# Altium integrated library Op-Amps and Comparators.IntLib: 17 symbols
Pins are listed as number, name and electrical type; pins without a type are passive.

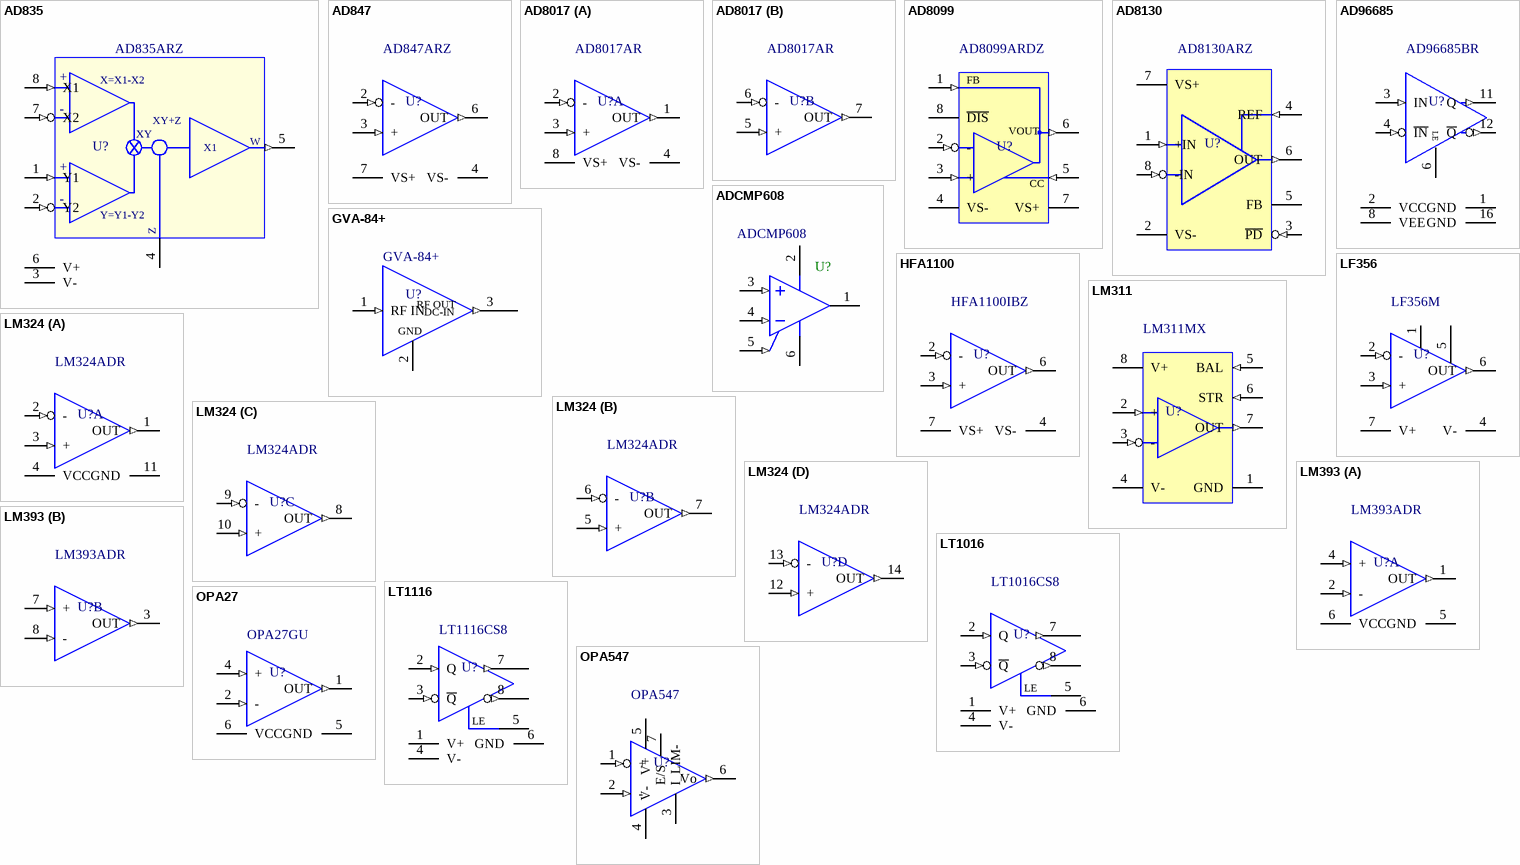
[diagram p0: symbols AD835 to OPA547]

## AD835
designator U?, comment AD835ARZ
Voltage Output Multiplier, 250MHz, 4 Quadrant; Manufacturer: Analog Devices Inc.; Current Output High: 75mA; Supply Voltage: +/- 6V; Output Type: Voltage; Current Output Low: *; PackageDescription: SOIC, 8-Leads, Body 4.9x3.9mm, Pitch 1.27mm, IPC Low Density; Input Type: Voltage; Type: Analog Multiplier; Supplier 1: Newark; Supplier Part Number 1: 68H9066; Supplier 2: Mouser; Supplier Part Number 2: 584-AD835ARZ; CMRR/PSRR: -; ComponentLink1Description: Datasheet; ComponentLink1URL: \\Canopus\EDA\Datasheets\Op-Amps and Comparitors\ADCMP608.pdf; Package Reference: SOIC-8; Supplier 3: TME; Supplier Part Number 3: AD835ARZ; Part Number: AD835ARZ
footprint SOIC-8 (SOIC, 8-Leads, Body 4.9x3.9mm, Pitch 1.27mm, IPC Low Density)
3D model SOIC-8 (PCB3D Model)
pins: 1 Y1 (in), 2 Y2 (in), 3 V- (power), 4 Z (power), 5 W (out), 6 V+ (power), 7 X2 (in), 8 X1 (in)
text: +; X=X1-X2; XY+Z; XY; Y=Y1-Y2

## AD847
designator U?, comment AD847ARZ
Operational Amplifier, Monolithic, Unity Gain at 50MHz; Manufacturer: Analog Devices; Current Output High: 32mA; Supply Voltage: +/- 4.5V to 18V; Output Type: -; Current Output Low: 32mA; PackageDescription: SOIC, 8-Leads, Body 4.9x3.9mm, Pitch 1.27mm, IPC Low Density; Supplier 1: Mouser; Supplier Part Number 1: 584-AD847ARZ; Input Type: -; Type: General Purpose Op-Amp; CMRR/PSRR: -; ComponentLink1Description: Datasheet; ComponentLink1URL: \\Canopus\EDA\Datasheets\Op-Amps and Comparitors\AD847.pdf; Package Reference: SOIC-8; Part Number: AD847ARZ
footprint SOIC-8 (SOIC, 8-Leads, Body 4.9x3.9mm, Pitch 1.27mm, IPC Low Density)
3D model SOIC-8 (PCB3D Model)
simulation model AD847A (AD847A SPICE Macro-model)
pins: 2 - (in), 3 + (in), 4 VS- (power), 6 OUT (out), 7 VS+ (power)

## AD8017
designator U?  Part Number: AD8017AR  (hidden comment: AD8017)
Op-amp, General Purpose, Dual, 1600v/uS slew rate,; Manufacturer: Analog Devices Inc.; Current Output High: 270mA; Current Output Low: 200mA; Supply Voltage: 4.4V - 12V (single), +/-2.2V - 6V (dual); Output Type: -; PackageDescription: SOIC, 8-Leads, Body 4.9x3.9mm, Pitch 1.27mm, IPC Low Density; Input Type: -; Type: -; CMRR/PSRR: -; ComponentLink1Description: Datasheet; ComponentLink1URL: \\Canopus\EDA\Datasheets\Op-Amps and Comparitors\AD8017.pdf; Supplier 1: Newark; Supplier Part Number 1: 82H2945; Supplier 2: Mouser; Supplier Part Number 2: 584-AD8017ARZ; Package Reference: SOIC-8
3D model SOIC-8 (PCB3D Model)
footprint SOIC-8 (SOIC, 8-Leads, Body 4.9x3.9mm, Pitch 1.27mm, IPC Low Density)
simulation model AD8017 (AD8017 Spice Macro-model)
part A pins: 1 OUT (out), 2 - (in), 3 + (in), 4 VS- (power), 8 VS+ (power)
part B pins: 5 + (in), 6 - (in), 7 OUT (out)

## AD8099
designator U?, comment AD8099ARDZ
Operational Amplifier, Voltage Feedback, 510MHz; Manufacturer: Analog Devices Inc.; Current Output High: 178mA; Current Output Low: 131mA; Supply Voltage: 5V - 12V (single), +/-2.5V - 6V (dual); CMRR/PSRR: 102dB CMRR, 95dB PSRR; Output Type: -; Supplier 1: Mouser; Supplier Part Number 1: 584-AD8099ACPZ-R7; Input Type: -; Type: Low Noise Op Amp; ComponentLink1Description: Datasheet; ComponentLink1URL: \\Canopus\EDA\Datasheets\Op-Amps and Comparitors\AD8099.pdf; PackageDescription: SOIC, 8-Leads, Body 4.9x3.9mm, Pitch 1.27mm, IPC Low Density; Package Reference: SOIC-8; Part Number: AD8099ARDZ
footprint SOIC-8 (SOIC, 8-Leads, Body 4.9x3.9mm, Pitch 1.27mm, IPC Low Density)
3D model SOIC-8 (PCB3D Model)
simulation model AD8099 (AD8099 Simulation model)
pins: 1 FB (in), 2 - (in), 3 + (in), 4 VS- (power), 5 CC (in), 6 VOUT (out), 7 VS+ (power), 8 ~{DIS} (power)

## AD8130
designator U?, comment AD8130ARZ
Differential Receiver Amplifier, 270MHz; Manufacturer: Analog Devices Inc.; Output Type: Single Ended; Current Output High: 40mA; Supply Voltage: 4.5V - 25.2V (single), +/-2.25V - 12.6V (dual); CMRR/PSRR: 80dB @ 1Vp-p; Current Output Low: 40mA; PackageDescription: SOIC, 8-Leads, Body 4.9x3.9mm, Pitch 1.27mm, IPC Low Density; Supplier 1: TME; Supplier Part Number 1: AD8130ARZ; Supplier 2: Mouser; Supplier Part Number 2: 584-AD8130ARZ; Input Type: Differential; Type: Differential; ComponentLink1Description: Datasheet; ComponentLink1URL: \\Canopus\EDA\Datasheets\Op-Amps and Comparitors\AD8129_8130.pdf; Package Reference: SOIC-8; Part Number: AD8130ARZ
footprint SOIC-8 (SOIC, 8-Leads, Body 4.9x3.9mm, Pitch 1.27mm, IPC Low Density)
3D model SOIC-8 (PCB3D Model)
simulation model AD8130 (AD8130  SPICE Macro-model)
pins: 1 +IN (in), 2 VS- (power), 3 ~{PD} (in), 4 REF (in), 5 FB, 6 OUT (out), 7 VS+ (power), 8 -IN (in)

## AD96685
designator U?, comment Part Number: AD96685BR  (hidden comment: AD96685BRZ)
Ultrafast Comparator, Single, ECL compatable output; Manufacturer: Analog Devices; Output Type: Complimetary, Open-Emitter, ECL; Current Output High: 36mA; Current Output Low: 18mA; Supply Voltage: +5V, -5.2V; CMRR/PSRR: 90dB CMRR, 70dB PSRR; PackageDescription: SOIC, 16-Leads, Body 9.9x3.9mm, Pitch 1.27mm, IPC Low Density; Supplier 1: Mouser; Supplier Part Number 1: 584-AD96685BRZ; Input Type: -; Type: Comparitor; ComponentLink1Description: Datasheet; ComponentLink1URL: \\Canopus\EDA\Datasheets\Op-Amps and Comparitors\AD96685_96687.pdf; Package Reference: SOIC-16
footprint SOIC-16 (SOIC, 16-Leads, Body 9.9x3.9mm, Pitch 1.27mm, IPC Low Density)
3D model SOIC-16 (PCB3D Model)
pins: 1 GND (power), 2 VCC (power), 3 IN (in), 4 ~{IN} (in), 6 LE, 8 VEE (power), 11 Q (out), 12 ~{Q} (out), 16 GND (power)

## ADCMP608
designator U?
TTL/CMOS Rail to Rail High Speed Comparator, SC70-6 package; Manufacturer: Analog Devices; CMRR/PSRR: 45dB CMRR, 50dB PSRR; Output Type: TTL/CMOS/Rail to Rail; ComponentLink1URL: \\Canopus\EDA\Datasheets\Op-Amps and Comparitors\ADCMP608.pdf; ComponentLink1Description: Datasheet; Supplier 1: Newark; Supplier Part Number 1: 29X6625; Supplier 2: Mouser; Supplier Part Number 2: 584-ADCMP608BKSZR7; PackageDescription: SOT363, S06/TSSOT-06 Package, 6-Leads, Body 2.00x2.10mm, Pitch 0.65mm, IPC Medium Density; Package Reference: SOT-363; Type: General Purpose; Part Number: ADCMP608
3D model SOT-363 (PCB3D Model)
footprint SOT363 (SOT363, S06/TSSOT-06 Package, 6-Leads, Body 2.00x2.10mm, Pitch 0.65mm, IPC Medium Density)
pins: 1 Q (hiz) "Noninverting Output. Q is at logic high if the analog voltage at the noninverting input, VP, is greater than the analog voltage at the inverting input, VN.", 2 VEE (power) "Negative Supply Voltage.", 3 VP (in) "Noninverting Analog Input.", 4 VN (in) "Inverting Analog Input.", 5 SDN (in) "Shutdown. Drive this pin low to shut down the device.", 6 VCC (power) "VCC Supply."

## GVA-84+
designator U?
Monolithic RF Amplifier, DC to 7GHz, 24dB, 5V; Manufacturer: Mini Circuits; Output Type: -; Supply Voltage: 5V; PackageDescription: SOT-89 3 pin and connected tab.  4.4mm x 4.5mm; Input Type: -; Type: RF Amplifier; CMRR/PSRR: -; ComponentLink1Description: Datasheet; ComponentLink1URL: \\Canopus\EDA\Datasheets\Op-Amps and Comparitors\GVA-84+.pdf; Package Reference: SOT-89; Part Number: GVA-84+
footprint SOT-89 (SOT-89 3 pin and connected tab.  4.4mm x 4.5mm)
3D model SOT-89-2 (PCB3D Model)
pins: 1 RF IN (in), 2 GND (power), 3 RF OUT (out)
text: DC-IN

## HFA1100
designator U?, comment HFA1100IBZ
Low distortion, Operational Amplifier,  Current Feedback, 850MHz; Manufacturer: Intersil; Current Output High: 60mA; Supply Voltage: 4.5V - 11V (single), +/-2.25V - 5.5V (dual); CMRR/PSRR: 46dB CMRR, 50dB PSRR; Output Type: -; Current Output Low: 60mA; PackageDescription: SOIC, 8-Leads, Body 4.9x3.9mm, Pitch 1.27mm, IPC Low Density; Input Type: -; Type: Current Feedback Amplifier; ComponentLink1Description: Datasheet; ComponentLink1URL: \\Canopus\EDA\Datasheets\Op-Amps and Comparitors\hfa1100.pdf; Package Reference: SOIC-8; Supplier 1: Mouser; Supplier Part Number 1: 968-HFA1100IBZ; Part Number: HFA1100IBZ
footprint SOIC-8 (SOIC, 8-Leads, Body 4.9x3.9mm, Pitch 1.27mm, IPC Low Density)
3D model SOIC-8 (PCB3D Model)
simulation model HFA1100 (HFA1100IBZ simulation model)
pins: 2 - (in), 3 + (in), 4 VS- (power), 6 OUT (out), 7 VS+ (power)

## LF356
designator U?, comment Part Number: LF356M  (hidden comment: LF356MX)
Operational Amplifier, Monolithic J-FET, 5MHz; Manufacturer: Texas Instruments; Supply Voltage: 10 - 36V (single) +/- 5 - 18V (dual); CMRR/PSRR: 100dB CMRR, 100dB PSRR; Supplier 1: Mouser; Supplier Part Number 1: 926-LF356MX/NOPB; Output Type: -; Current Output High: -; Current Output Low: -; PackageDescription: SOIC, 8-Leads, Body 4.9x3.9mm, Pitch 1.27mm, IPC Low Density; Input Type: -; Type: J-FET Amplifier; ComponentLink1Description: Datasheet; ComponentLink1URL: \\Canopus\EDA\Datasheets\Op-Amps and Comparitors\lf155.pdf; Package Reference: SOIC-8
footprint SOIC-8 (SOIC, 8-Leads, Body 4.9x3.9mm, Pitch 1.27mm, IPC Low Density)
3D model SOIC-8 (PCB3D Model)
simulation model LF356/NS (LF356 Simulation File)
pins: 1 Balance, 2 - (in), 3 + (in), 4 V- (power), 5 Balance, 6 OUT (out), 7 V+ (power)

## LM311
designator U?, comment LM311MX
Comparator, Voltage, 30V; Manufacturer: Texas Instruments; Output Type: DTL, MOS, Open-Collector, Open-Emitter, RTL, TTL; Current Output High: 50mA; Current Output Low: 5mA; Supply Voltage: +/-15V; PackageDescription: SOIC, 8-Leads, Body 4.9x3.9mm, Pitch 1.27mm, IPC Low Density; Supplier 1: Mouser; Supplier Part Number 1: 926-LM311MX/NOPB; Input Type: -; Type: General Purpose; CMRR/PSRR: -; ComponentLink1Description: Datasheet; ComponentLink1URL: \\Canopus\EDA\Datasheets\Op-Amps and Comparitors\lm311-n.pdf; Package Reference: SOIC-8; Part Number: LM311MX
footprint SOIC-8 (SOIC, 8-Leads, Body 4.9x3.9mm, Pitch 1.27mm, IPC Low Density)
3D model SOIC-8 (PCB3D Model)
simulation model LM311 (LM311 VOLTAGE COMPARATOR "MACROMODEL" SUBCIRCUIT)
pins: 1 GND (power), 2 + (in), 3 - (in), 4 V- (power), 5 BAL (in), 6 STR (in), 7 OUT (out), 8 V+ (power)

## LM324
designator U?, comment LM324ADR
Operational Amplifier, Quad, 32V; Manufacturer: Texas Instruments; Current Output High: 60mA; Current Output Low: 10mA; Supply Voltage: +/- 16V or +/- 32V; CMRR/PSRR: 80 dB CMRR, 100dB PSRR; Output Type: -; PackageDescription: SOIC, 8-Leads, Body 4.9x3.9mm, Pitch 1.27mm, IPC Low Density; Input Type: -; Type: General Purpose; ComponentLink1Description: Datasheet; ComponentLink1URL: \\Canopus\EDA\Datasheets\Op-Amps and Comparitors\lm224.pdf; Supplier 1: Mouser; Supplier Part Number 1: 595-LM324ADR; Package Reference: SOIC-14; Part Number: LM324ADR
footprint SOIC-14 (SOIC, 14-Leads, Body 8.5x3.9mm, Pitch 1.27mm, IPC Low Density)
simulation model LM324 (LM324 OPERATIONAL AMPLIFIER "MACROMODEL" SUBCIRCUIT)
3D model SOIC-14 (PCB3D Model)
part A pins: 1 OUT (out), 2 - (in), 3 + (in), 4 VCC (power), 11 GND (power)
part B pins: 5 + (in), 6 - (in), 7 OUT (out)
part C pins: 8 OUT (out), 9 - (in), 10 + (in)
part D pins: 12 + (in), 13 - (in), 14 OUT (out)

## LM393
designator U?, comment LM393ADR
Dual Differential Comparator, General Purpose; Manufacturer: Texas Instruments; Output Type: CMOS, MOS, Open-Collector, TTL; Current Output High: 20mA; Supply Voltage: 2V - 36V (single), +/- 1V - 18V (dual); Supplier 1: Mouser; Supplier Part Number 1: 511-LM393ADT; Current Output Low: 20mA; Input Type: -; Type: General Purpose; CMRR/PSRR: -; ComponentLink1Description: Datasheet; ComponentLink1URL: \\Canopus\EDA\Datasheets\Op-Amps and Comparitors\lm393a.pdf; PackageDescription: SOIC, 8-Leads, Body 4.9x3.9mm, Pitch 1.27mm, IPC Low Density; Package Reference: SOIC-8; Part Number: LM393ADR
footprint SOIC-8 (SOIC, 8-Leads, Body 4.9x3.9mm, Pitch 1.27mm, IPC Low Density)
3D model SOIC-8 (PCB3D Model)
simulation model LM393 (LM393 VOLTAGE COMPARATOR "MACROMODEL" SUBCIRCUIT)
part A pins: 1 OUT (out), 2 - (in), 4 + (in), 5 GND (power), 6 VCC (power)
part B pins: 3 OUT (out), 7 + (in), 8 - (in)

## LT1016
designator U?  Part Number: LT1016CS8  (hidden comment: LT1016)
Comparator, with Latch, 10ns; Manufacturer: Linear Technology; Output Type: CMOS, Complimentary, TTL; Current Output High: 20mA; Supply Voltage: +5V, +/-5V; CMRR/PSRR: 96dB CMRR, 75dB PSRR; Current Output Low: 20mA; PackageDescription: SOIC, 8-Leads, Body 4.9x3.9mm, Pitch 1.27mm, IPC Low Density; Supplier 1: TME; Supplier Part Number 1: LT1016CS8-SMD; Input Type: -; Type: Comparator With Latch; ComponentLink1Description: Datasheet; ComponentLink1URL: \\Canopus\EDA\Datasheets\Op-Amps and Comparitors\1016fc.pdf; Package Reference: SOIC-8
footprint SOIC-8 (SOIC, 8-Leads, Body 4.9x3.9mm, Pitch 1.27mm, IPC Low Density)
3D model SOIC-8 (PCB3D Model)
simulation model LT1016 (Version 2.0 Copyright © Linear Technology Corp. 10/19/04. All rights reserved)
pins: 1 V+ (power), 2 Q (in), 3 ~{Q} (in), 4 V- (power), 5 LE (power), 6 GND (power), 7 Q (out), 8 ~{Q} (out)

## LT1116
designator U?  Part Number: LT1116CS8  (hidden comment: LT1116)
Comparator, with Latch, 12ns; Manufacturer: Linear Technology; Output Type: CMOS, Complimentary, TTL; Current Output High: 20mA; Supply Voltage: -7/+7V; CMRR/PSRR: 90dB CMRR, 75dB PSRR; Current Output Low: 20mA; PackageDescription: SOIC, 8-Leads, Body 4.9x3.9mm, Pitch 1.27mm, IPC Low Density; Input Type: -; Type: Comparator With Latch; ComponentLink1Description: Datasheet; Package Reference: SOIC-8; Supplier 1: Newark; Supplier Part Number 1: 57M1773
footprint SOIC-8 (SOIC, 8-Leads, Body 4.9x3.9mm, Pitch 1.27mm, IPC Low Density)
3D model SOIC-8 (PCB3D Model)
pins: 1 V+ (power), 2 Q (in), 3 ~{Q} (in), 4 V- (power), 5 LE (power), 6 GND (power), 7 Q (out), 8 ~{Q} (out)

## OPA27
designator U?, comment OPA27GU
Operational Amplifier, Single, 8MHz; Manufacturer: Texas Instruments; CMRR/PSRR: 122dB CMRR; Current Output Low: 60mA; Output Type: Voltage; Supply Voltage: 8 V ~ 44 V, ±4 V ~ 22 V; Input Type: -; Type: General Purpose; ComponentLink1Description: Datasheet; ComponentLink1URL: \\Canopus\EDA\Datasheets\Op-Amps and Comparitors\opa27.pdf; Current Output High: -; PackageDescription: SOIC, 8-Leads, Body 4.9x3.9mm, Pitch 1.27mm, IPC Low Density; Supplier 1: Newark; Supplier Part Number 1: 80K6023; Supplier 2: Mouser; Supplier Part Number 2: 595-OPA27GU; Package Reference: SOIC-8; Part Number: OPA27GU
simulation model OPA27 (OPA27 SPICE Simulation Model)
footprint SOIC-8 (SOIC, 8-Leads, Body 4.9x3.9mm, Pitch 1.27mm, IPC Low Density)
3D model SOIC-8 (PCB3D Model)
pins: 1 OUT (out), 2 - (in), 4 + (in), 5 GND (power), 6 VCC (power)

## OPA547
designator U?
Operational Amplifier, High Voltage, High Current, 500mA; Manufacturer: Texas Instruments; Current Output High: 750mA; Supply Voltage: 8V-60V (single), +/-4V-30V (dual); Current Output Low: -; PackageDescription: DDPAK surface mount; Input Type: -; Type: Amplifier, General Purpose; ComponentLink1Description: Datasheet; ComponentLink1URL: \\Canopus\EDA\Datasheets\Op-Amps and Comparitors\OPA547.pdf; Supplier 1: Mouser; Supplier Part Number 1: 595-OPA547F/500; Package Reference: DDPAK7; Part Number: OPA547
footprint DDPAK-7 (DDPAK 7 pins surface mount)
simulation model OPA547 (Simulation)
pins: 1 + (in), 2 - (in), 3 I_LIM-, 4 V-, 5 V+ (power), 6 Vo (out), 7 E/S (power)